# Altium footprint library AD格式.PcbLib: 26 footprints (part 1 of 2)
Each footprint in its own frame and in the unit in brackets; x right, y up, seen from the top. Pads: shape width x height; smd on the part's side, far side on the other; paste and mask are expansions set on the pad; w line width, h text height; cw(c..) or ccw(c..) is an arc to the next point about the centre after c.
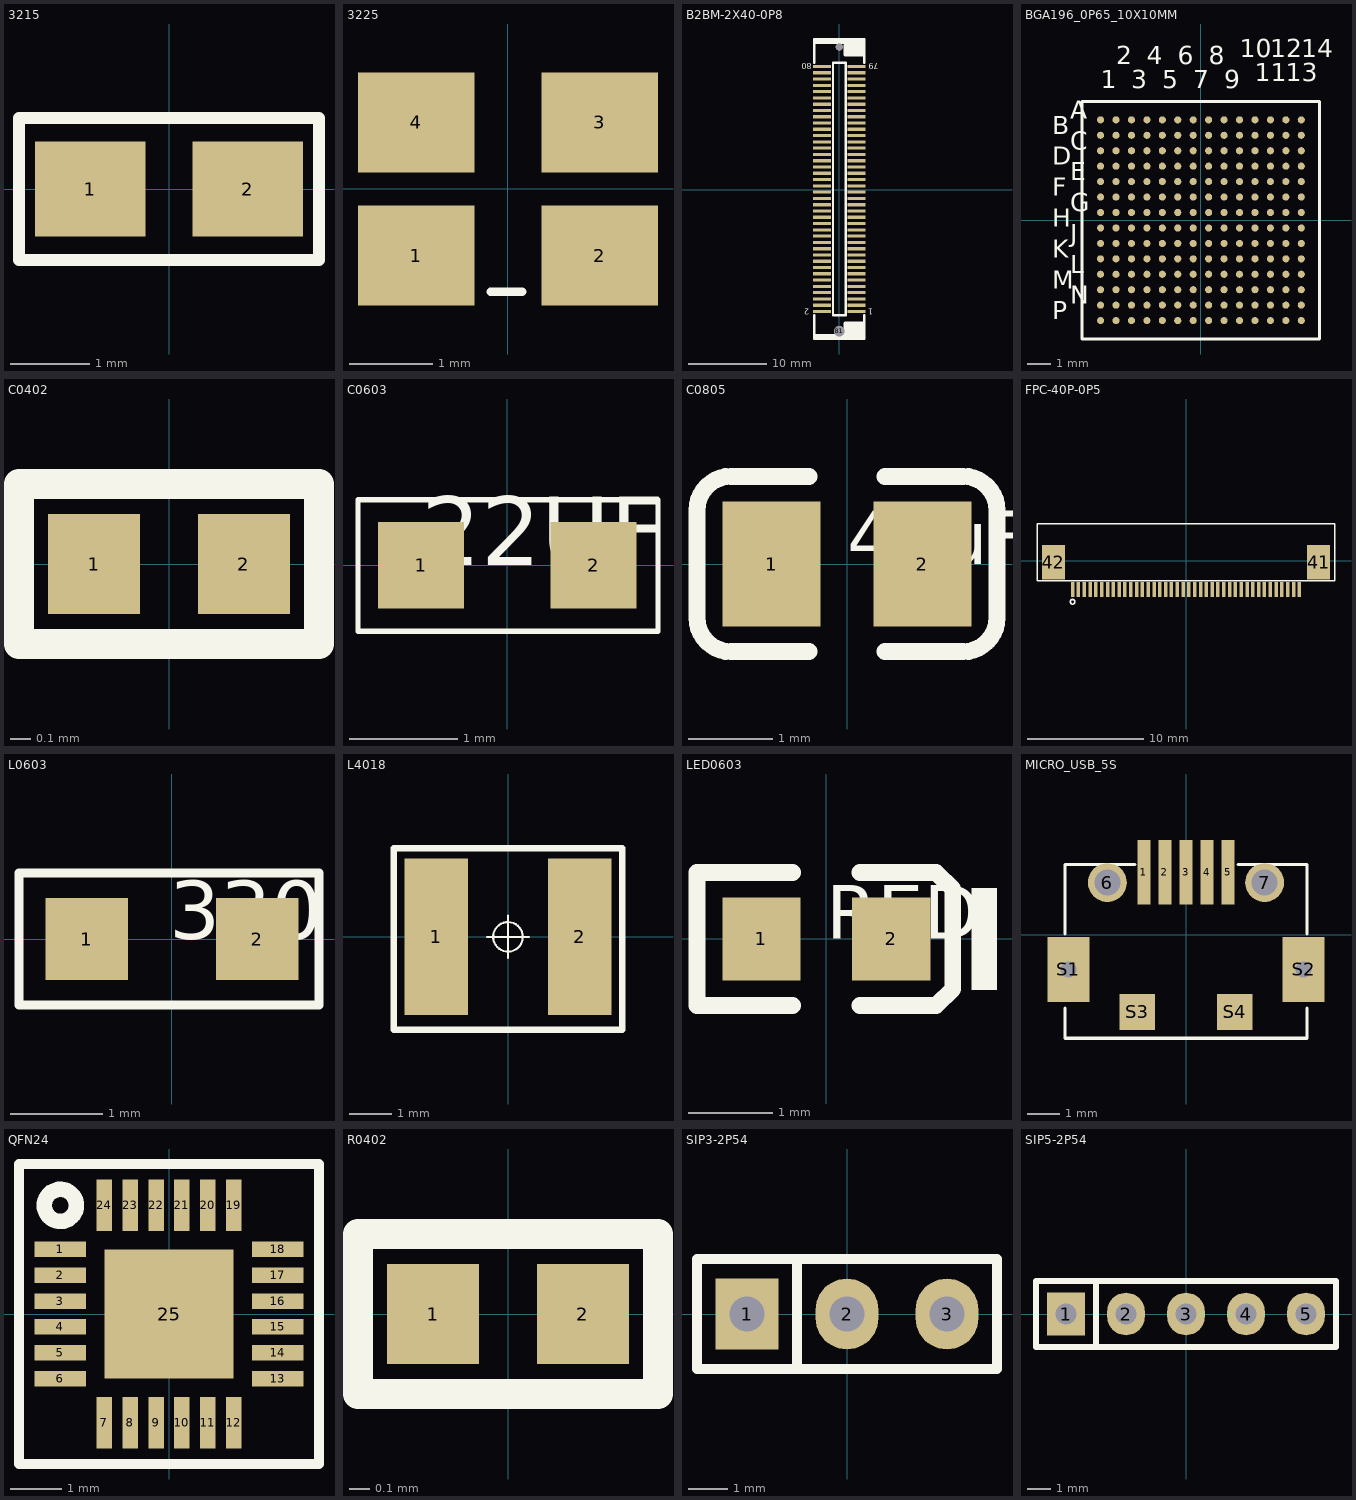
[diagram p0: the footprints below, top view; thin cyan lines are the x and y axes]

## 3215 [mm] "3215"
pads (2):
  rect 1.4x1.2 smd: 1(-1,0) 2(1,0)
Top Overlay:
  lines w0.15: -1.9,-0.9 1.9,-0.9 1.9,0.9 -1.9,0.9 -1.9,-0.9
Mechanical 9:
  text "1" at -1,-0.254 h0.64
  text "2" at 1,-0.254 h0.64

## 3225 [mil] "3225"
pads (4):
  rect 55.12x47.24 smd: 1(-43.3,-31.5) 2(43.31,-31.5) 3(43.31,31.49) 4(-43.3,31.49)
Top Overlay:
  lines w3.94: -8.3,-48.51 6.7,-48.51
Mechanical 9:
  text "4" at -53.3,31.49 h25
  text "2" at 33.31,-31.5 h25
  text "1" at -53.3,-31.5 h25
  text "3" at 33.31,31.49 h25

## B2BM-2X40-0P8 [mm] "B2BM-2X40-0P8"
pads (82):
  rect 2.3x0.4 smd: 1(2.2,-15.5) 2(-2.2,-15.5) 3(2.2,-14.7) 4(-2.2,-14.7) 5(2.2,-13.9) 6(-2.2,-13.9) 7(2.2,-13.1) 8(-2.2,-13.1) 9(2.2,-12.3) 10(-2.2,-12.3) 11(2.2,-11.5) 12(-2.2,-11.5) 13(2.2,-10.7) 14(-2.2,-10.7) 15(2.2,-9.9) 16(-2.2,-9.9) 17(2.2,-9.1) 18(-2.2,-9.1) 19(2.2,-8.3) 20(-2.2,-8.3) 21(2.2,-7.5) 22(-2.2,-7.5) 23(2.2,-6.7) 24(-2.2,-6.7) 25(2.2,-5.9) 26(-2.2,-5.9) 27(2.2,-5.1) 28(-2.2,-5.1) 29(2.2,-4.3) 30(-2.2,-4.3) 31(2.2,-3.5) 32(-2.2,-3.5) 33(2.2,-2.7) 34(-2.2,-2.7) 35(2.2,-1.9) 36(-2.2,-1.9) 37(2.2,-1.1) 38(-2.2,-1.1) 39(2.2,-0.3) 40(-2.2,-0.3) 41(2.2,0.5) 42(-2.2,0.5) 43(2.2,1.3) 44(-2.2,1.3) 45(2.2,2.1) 46(-2.2,2.1) 47(2.2,2.9) 48(-2.2,2.9) 49(2.2,3.7) 50(-2.2,3.7) 51(2.2,4.5) 52(-2.2,4.5) 53(2.2,5.3) 54(-2.2,5.3) 55(2.2,6.1) 56(-2.2,6.1) 57(2.2,6.9) 58(-2.2,6.9) 59(2.2,7.7) 60(-2.2,7.7) 61(2.2,8.5) 62(-2.2,8.5) 63(2.2,9.3) 64(-2.2,9.3) 65(2.2,10.1) 66(-2.2,10.1) 67(2.2,10.9) 68(-2.2,10.9) 69(2.2,11.7) 70(-2.2,11.7) 71(2.2,12.5) 72(-2.2,12.5) 73(2.2,13.3) 74(-2.2,13.3) 75(2.2,14.1) 76(-2.2,14.1) 77(2.2,14.9) 78(-2.2,14.9) 79(2.2,15.7) 80(-2.2,15.7)
  round 1.3 hole 1.3: 81(0,-18)
  round 0.9 hole 0.9: 82(0,18.2)
Top Overlay:
  lines w0.305: -3.2,-16 -3.2,-19 3.2,-19 3.2,-16 ; -3.2,16.2 -3.2,19.2 3.2,19.2 3.2,16.2 ; -0.8,-16 0.8,-16 0.8,16.2 -0.8,16.2 -0.8,-16
  lines w0.5: -3,-18.6 3,-18.6 ; -3,18.8 3,18.8 ; 0.8,-17.8 3,-17.8 ; 0.8,-17.4 3,-17.4 ; 0.8,17.6 3,17.6 ; 0.8,18 3,18 ; 3,-18.2 0.8,-18.2 0.8,-17 3,-17 ; 3,17.2 0.8,17.2 0.8,18.4 3,18.4
  text "1" at 4.335,-15.164 h0.76
  text "2" at -3.793,-15.164 h0.76
  text "79" at 5,16.1 h0.76
  text "80" at -3.5,16.1 h0.76
Mechanical 9:
  text "82" at -0.508,18.2 h0.64
  text "81" at -0.508,-18 h0.64
  text "15" at 1.692,-9.9 h0.64
  text "16" at -2.708,-9.9 h0.64
  text "18" at -2.708,-9.1 h0.64
  text "10" at -2.708,-12.3 h0.64
  text "12" at -2.708,-11.5 h0.64
  text "14" at -2.708,-10.7 h0.64
  text "11" at 1.692,-11.5 h0.64
  text "13" at 1.692,-10.7 h0.64
  text "9" at 1.946,-12.3 h0.64
  text "17" at 1.692,-9.1 h0.64
  text "6" at -2.454,-13.9 h0.64
  text "1" at 1.946,-15.5 h0.64
  text "3" at 1.946,-14.7 h0.64
  text "5" at 1.946,-13.9 h0.64
  text "2" at -2.454,-15.5 h0.64
  text "4" at -2.454,-14.7 h0.64
  text "7" at 1.946,-13.1 h0.64
  text "8" at -2.454,-13.1 h0.64
  text "39" at 1.692,-0.3 h0.64
  text "40" at -2.708,-0.3 h0.64
  text "79" at 1.692,15.7 h0.64
  text "37" at 1.692,-1.1 h0.64
  text "19" at 1.692,-8.3 h0.64
  text "20" at -2.708,-8.3 h0.64
  text "29" at 1.692,-4.3 h0.64
  text "30" at -2.708,-4.3 h0.64
  text "31" at 1.692,-3.5 h0.64
  text "32" at -2.708,-3.5 h0.64
  text "33" at 1.692,-2.7 h0.64
  text "34" at -2.708,-2.7 h0.64
  text "21" at 1.692,-7.5 h0.64
  text "22" at -2.708,-7.5 h0.64
  text "23" at 1.692,-6.7 h0.64
  text "24" at -2.708,-6.7 h0.64
  text "25" at 1.692,-5.9 h0.64
  text "26" at -2.708,-5.9 h0.64
  text "27" at 1.692,-5.1 h0.64
  text "28" at -2.708,-5.1 h0.64
  text "38" at -2.708,-1.1 h0.64
  text "36" at -2.708,-1.9 h0.64
  text "35" at 1.692,-1.9 h0.64
  text "41" at 1.692,0.5 h0.64
  text "42" at -2.708,0.5 h0.64
  text "51" at 1.692,4.5 h0.64
  text "52" at -2.708,4.5 h0.64
  text "53" at 1.692,5.3 h0.64
  text "43" at 1.692,1.3 h0.64
  text "44" at -2.708,1.3 h0.64
  text "45" at 1.692,2.1 h0.64
  text "46" at -2.708,2.1 h0.64
  text "47" at 1.692,2.9 h0.64
  text "48" at -2.708,2.9 h0.64
  text "49" at 1.692,3.7 h0.64
  text "50" at -2.708,3.7 h0.64
  text "58" at -2.708,6.9 h0.64
  text "59" at 1.692,7.7 h0.64
  text "56" at -2.708,6.1 h0.64
  text "60" at -2.708,7.7 h0.64
  text "54" at -2.708,5.3 h0.64
  text "63" at 1.692,9.3 h0.64
  text "64" at -2.708,9.3 h0.64
  text "73" at 1.692,13.3 h0.64
  text "74" at -2.708,13.3 h0.64
  text "75" at 1.692,14.1 h0.64
  text "76" at -2.708,14.1 h0.64
  text "77" at 1.692,14.9 h0.64
  text "78" at -2.708,14.9 h0.64
  text "65" at 1.692,10.1 h0.64
  text "66" at -2.708,10.1 h0.64
  text "67" at 1.692,10.9 h0.64
  text "68" at -2.708,10.9 h0.64
  text "69" at 1.692,11.7 h0.64
  text "70" at -2.708,11.7 h0.64
  text "71" at 1.692,12.5 h0.64
  text "72" at -2.708,12.5 h0.64
  text "61" at 1.692,8.5 h0.64
  text "62" at -2.708,8.5 h0.64
  text "57" at 1.692,6.9 h0.64
  text "55" at 1.692,6.1 h0.64
  text "80" at -2.708,15.7 h0.64

## BGA196_0P65_10X10MM [mm] "BGA196_0P65_10X10MM"
pads (196):
  round 0.3 smd: A1(-4.225,4.225) A2(-3.575,4.225) A3(-2.925,4.225) A4(-2.275,4.225) A5(-1.625,4.225) A6(-0.975,4.225) A7(-0.325,4.225) A8(0.325,4.225) A9(0.975,4.225) A10(1.625,4.225) A11(2.275,4.225) A12(2.925,4.225) A13(3.575,4.225) A14(4.225,4.225) B1(-4.225,3.575) B2(-3.575,3.575) B3(-2.925,3.575) B4(-2.275,3.575) B5(-1.625,3.575) B6(-0.975,3.575) B7(-0.325,3.575) B8(0.325,3.575) B9(0.975,3.575) B10(1.625,3.575) B11(2.275,3.575) B12(2.925,3.575) B13(3.575,3.575) B14(4.225,3.575) C1(-4.225,2.925) C2(-3.575,2.925) C3(-2.925,2.925) C4(-2.275,2.925) C5(-1.625,2.925) C6(-0.975,2.925) C7(-0.325,2.925) C8(0.325,2.925) C9(0.975,2.925) C10(1.625,2.925) C11(2.275,2.925) C12(2.925,2.925) C13(3.575,2.925) C14(4.225,2.925) D1(-4.225,2.275) D2(-3.575,2.275) D3(-2.925,2.275) D4(-2.275,2.275) D5(-1.625,2.275) D6(-0.975,2.275) D7(-0.325,2.275) D8(0.325,2.275) D9(0.975,2.275) D10(1.625,2.275) D11(2.275,2.275) D12(2.925,2.275) D13(3.575,2.275) D14(4.225,2.275) E1(-4.225,1.625) E2(-3.575,1.625) E3(-2.925,1.625) E4(-2.275,1.625) E5(-1.625,1.625) E6(-0.975,1.625) E7(-0.325,1.625) E8(0.325,1.625) E9(0.975,1.625) E10(1.625,1.625) E11(2.275,1.625) E12(2.925,1.625) E13(3.575,1.625) E14(4.225,1.625) F1(-4.225,0.975) F2(-3.575,0.975) F3(-2.925,0.975) F4(-2.275,0.975) F5(-1.625,0.975) F6(-0.975,0.975) F7(-0.325,0.975) F8(0.325,0.975) F9(0.975,0.975) F10(1.625,0.975) F11(2.275,0.975) F12(2.925,0.975) F13(3.575,0.975) F14(4.225,0.975) G1(-4.225,0.325) G2(-3.575,0.325) G3(-2.925,0.325) G4(-2.275,0.325) G5(-1.625,0.325) G6(-0.975,0.325) G7(-0.325,0.325) G8(0.325,0.325) G9(0.975,0.325) G10(1.625,0.325) G11(2.275,0.325) G12(2.925,0.325) G13(3.575,0.325) G14(4.225,0.325) H1(-4.225,-0.325) H2(-3.575,-0.325) H3(-2.925,-0.325) H4(-2.275,-0.325) H5(-1.625,-0.325) H6(-0.975,-0.325) H7(-0.325,-0.325) H8(0.325,-0.325) H9(0.975,-0.325) H10(1.625,-0.325) H11(2.275,-0.325) H12(2.925,-0.325) H13(3.575,-0.325) H14(4.225,-0.325) J1(-4.225,-0.975) J2(-3.575,-0.975) J3(-2.925,-0.975) J4(-2.275,-0.975) J5(-1.625,-0.975) J6(-0.975,-0.975) J7(-0.325,-0.975) J8(0.325,-0.975) J9(0.975,-0.975) J10(1.625,-0.975) J11(2.275,-0.975) J12(2.925,-0.975) J13(3.575,-0.975) J14(4.225,-0.975) K1(-4.225,-1.625) K2(-3.575,-1.625) K3(-2.925,-1.625) K4(-2.275,-1.625) K5(-1.625,-1.625) K6(-0.975,-1.625) K7(-0.325,-1.625) K8(0.325,-1.625) K9(0.975,-1.625) K10(1.625,-1.625) K11(2.275,-1.625) K12(2.925,-1.625) K13(3.575,-1.625) K14(4.225,-1.625) L1(-4.225,-2.275) L2(-3.575,-2.275) L3(-2.925,-2.275) L4(-2.275,-2.275) L5(-1.625,-2.275) L6(-0.975,-2.275) L7(-0.325,-2.275) L8(0.325,-2.275) L9(0.975,-2.275) L10(1.625,-2.275) L11(2.275,-2.275) L12(2.925,-2.275) L13(3.575,-2.275) L14(4.225,-2.275) M1(-4.225,-2.925) M2(-3.575,-2.925) M3(-2.925,-2.925) M4(-2.275,-2.925) M5(-1.625,-2.925) M6(-0.975,-2.925) M7(-0.325,-2.925) M8(0.325,-2.925) M9(0.975,-2.925) M10(1.625,-2.925) M11(2.275,-2.925) M12(2.925,-2.925) M13(3.575,-2.925) M14(4.225,-2.925) N1(-4.225,-3.575) N2(-3.575,-3.575) N3(-2.925,-3.575) N4(-2.275,-3.575) N5(-1.625,-3.575) N6(-0.975,-3.575) N7(-0.325,-3.575) N8(0.325,-3.575) N9(0.975,-3.575) N10(1.625,-3.575) N11(2.275,-3.575) N12(2.925,-3.575) N13(3.575,-3.575) N14(4.225,-3.575) P1(-4.225,-4.225) P2(-3.575,-4.225) P3(-2.925,-4.225) P4(-2.275,-4.225) P5(-1.625,-4.225) P6(-0.975,-4.225) P7(-0.325,-4.225) P8(0.325,-4.225) P9(0.975,-4.225) P10(1.625,-4.225) P11(2.275,-4.225) P12(2.925,-4.225) P13(3.575,-4.225) P14(4.225,-4.225)
Top Overlay:
  lines w0.127: -5,-5 5,-5 5,5 -5,5 -5,-5
  text "1" at -4.225,5.546 h0.76
  text "2" at -3.575,6.562 h0.76
  text "3" at -2.925,5.546 h0.76
  text "4" at -2.275,6.562 h0.76
  text "5" at -1.625,5.546 h0.76
  text "6" at -0.975,6.562 h0.76
  text "7" at -0.325,5.546 h0.76
  text "8" at 0.325,6.562 h0.76
  text "9" at 0.975,5.546 h0.76
  text "10" at 1.625,6.867 h0.76
  text "11" at 2.275,5.851 h0.76
  text "12" at 2.925,6.867 h0.76
  text "13" at 3.575,5.851 h0.76
  text "14" at 4.225,6.867 h0.76
  text "P" at -6.257,-4.174 h0.76
  text "M" at -6.257,-2.874 h0.76
  text "N" at -5.495,-3.524 h0.76
  text "L" at -5.495,-2.224 h0.76
  text "J" at -5.495,-0.924 h0.76
  text "K" at -6.257,-1.574 h0.76
  text "G" at -5.495,0.376 h0.76
  text "H" at -6.257,-0.274 h0.76
  text "F" at -6.257,1.026 h0.76
  text "D" at -6.257,2.326 h0.76
  text "E" at -5.495,1.676 h0.76
  text "B" at -6.257,3.626 h0.76
  text "C" at -5.495,2.976 h0.76
  text "A" at -5.495,4.276 h0.76
Mechanical 9:
  text "B7" at -0.325,3.981 h0.51
  text "P6" at -0.975,-3.819 h0.51
  text "N6" at -0.975,-3.169 h0.51
  text "K8" at 0.325,-1.219 h0.51
  text "F8" at 0.325,1.382 h0.51
  text "F7" at -0.325,1.382 h0.51
  text "F9" at 0.975,1.382 h0.51
  text "H6" at -0.975,0.081 h0.51
  text "G6" at -0.975,0.732 h0.51
  text "F6" at -0.975,1.382 h0.51
  text "H9" at 0.975,0.081 h0.51
  text "J9" at 0.975,-0.569 h0.51
  text "J5" at -1.625,-0.569 h0.51
  text "G9" at 0.975,0.732 h0.51
  text "M9" at 0.975,-2.519 h0.51
  text "P12" at 2.925,-3.615 h0.51
  text "N14" at 4.225,-2.965 h0.51
  text "M14" at 4.225,-2.315 h0.51
  text "H10" at 1.625,0.284 h0.51
  text "D13" at 3.575,2.885 h0.51
  text "D14" at 4.225,2.885 h0.51
  text "K14" at 4.225,-1.015 h0.51
  text "L14" at 4.225,-1.665 h0.51
  text "L11" at 2.275,-1.665 h0.51
  text "M12" at 2.925,-2.315 h0.51
  text "D1" at -4.225,2.681 h0.51
  text "A7" at -0.325,4.631 h0.51
  text "D2" at -3.575,2.681 h0.51
  text "D6" at -0.975,2.681 h0.51
  text "H3" at -2.925,0.081 h0.51
  text "C5" at -1.625,3.331 h0.51
  text "C6" at -0.975,3.331 h0.51
  text "H4" at -2.275,0.081 h0.51
  text "H5" at -1.625,0.081 h0.51
  text "G5" at -1.625,0.732 h0.51
  text "F2" at -3.575,1.382 h0.51
  text "G4" at -2.275,0.732 h0.51
  text "F4" at -2.275,1.382 h0.51
  text "E4" at -2.275,2.031 h0.51
  text "C3" at -2.925,3.331 h0.51
  text "E5" at -1.625,2.031 h0.51
  text "D4" at -2.275,2.681 h0.51
  text "C4" at -2.275,3.331 h0.51
  text "D5" at -1.625,2.681 h0.51
  text "F3" at -2.925,1.382 h0.51
  text "E3" at -2.925,2.031 h0.51
  text "C7" at -0.325,3.331 h0.51
  text "E1" at -4.225,2.031 h0.51
  text "B3" at -2.925,3.981 h0.51
  text "A2" at -3.575,4.631 h0.51
  text "D3" at -2.925,2.681 h0.51
  text "F1" at -4.225,1.382 h0.51
  text "C1" at -4.225,3.331 h0.51
  text "B2" at -3.575,3.981 h0.51
  text "A4" at -2.275,4.631 h0.51
  text "A5" at -1.625,4.631 h0.51
  text "B1" at -4.225,3.981 h0.51
  text "B6" at -0.975,3.981 h0.51
  text "A6" at -0.975,4.631 h0.51
  text "H1" at -4.225,0.081 h0.51
  text "G3" at -2.925,0.732 h0.51
  text "A3" at -2.925,4.631 h0.51
  text "B4" at -2.275,3.981 h0.51
  text "G2" at -3.575,0.732 h0.51
  text "G1" at -4.225,0.732 h0.51
  text "C2" at -3.575,3.331 h0.51
  text "J2" at -3.575,-0.569 h0.51
  text "H2" at -3.575,0.081 h0.51
  text "K1" at -4.225,-1.219 h0.51
  text "J1" at -4.225,-0.569 h0.51
  text "J4" at -2.275,-0.569 h0.51
  text "J3" at -2.925,-0.569 h0.51
  text "C14" at 4.225,3.535 h0.51
  text "J14" at 4.225,-0.366 h0.51
  text "G12" at 2.925,0.935 h0.51
  text "H11" at 2.275,0.284 h0.51
  text "L13" at 3.575,-1.665 h0.51
  text "J13" at 3.575,-0.366 h0.51
  text "H12" at 2.925,0.284 h0.51
  text "M13" at 3.575,-2.315 h0.51
  text "M7" at -0.325,-2.519 h0.51
  text "L7" at -0.325,-1.869 h0.51
  text "K7" at -0.325,-1.219 h0.51
  text "P7" at -0.325,-3.819 h0.51
  text "N7" at -0.325,-3.169 h0.51
  text "L8" at 0.325,-1.869 h0.51
  text "M8" at 0.325,-2.519 h0.51
  text "M6" at -0.975,-2.519 h0.51
  text "J6" at -0.975,-0.569 h0.51
  text "M1" at -4.225,-2.519 h0.51
  text "M2" at -3.575,-2.519 h0.51
  text "K3" at -2.925,-1.219 h0.51
  text "P9" at 0.975,-3.819 h0.51
  text "N9" at 0.975,-3.169 h0.51
  text "P11" at 2.275,-3.615 h0.51
  text "N11" at 2.275,-2.965 h0.51
  text "M10" at 1.625,-2.315 h0.51
  text "P10" at 1.625,-3.615 h0.51
  text "P8" at 0.325,-3.819 h0.51
  text "K4" at -2.275,-1.219 h0.51
  text "L2" at -3.575,-1.869 h0.51
  text "L1" at -4.225,-1.869 h0.51
  text "D8" at 0.325,2.681 h0.51
  text "E8" at 0.325,2.031 h0.51
  text "E7" at -0.325,2.031 h0.51
  text "D10" at 1.625,2.885 h0.51
  text "C10" at 1.625,3.535 h0.51
  text "A10" at 1.625,4.835 h0.51
  text "D9" at 0.975,2.681 h0.51
  text "C9" at 0.975,3.331 h0.51
  text "B9" at 0.975,3.981 h0.51
  text "A9" at 0.975,4.631 h0.51
  text "A8" at 0.325,4.631 h0.51
  text "D11" at 2.275,2.885 h0.51
  text "C11" at 2.275,3.535 h0.51
  text "B11" at 2.275,4.185 h0.51
  text "A11" at 2.275,4.835 h0.51
  text "E11" at 2.275,2.235 h0.51
  text "E10" at 1.625,2.235 h0.51
  text "B8" at 0.325,3.981 h0.51
  text "C8" at 0.325,3.331 h0.51
  text "D7" at -0.325,2.681 h0.51
  text "L6" at -0.975,-1.869 h0.51
  text "E14" at 4.225,2.235 h0.51
  text "G13" at 3.575,0.935 h0.51
  text "F14" at 4.225,1.585 h0.51
  text "F12" at 2.925,1.585 h0.51
  text "G10" at 1.625,0.935 h0.51
  text "F13" at 3.575,1.585 h0.51
  text "K11" at 2.275,-1.015 h0.51
  text "J11" at 2.275,-0.366 h0.51
  text "H13" at 3.575,0.284 h0.51
  text "K10" at 1.625,-1.015 h0.51
  text "J12" at 2.925,-0.366 h0.51
  text "K12" at 2.925,-1.015 h0.51
  text "G14" at 4.225,0.935 h0.51
  text "F11" at 2.275,1.585 h0.51
  text "G11" at 2.275,0.935 h0.51
  text "M11" at 2.275,-2.315 h0.51
  text "N10" at 1.625,-2.965 h0.51
  text "A1" at -4.225,4.631 h0.51
  text "E2" at -3.575,2.031 h0.51
  text "B5" at -1.625,3.981 h0.51
  text "K2" at -3.575,-1.219 h0.51
  text "N1" at -4.225,-3.169 h0.51
  text "N2" at -3.575,-3.169 h0.51
  text "P1" at -4.225,-3.819 h0.51
  text "K6" at -0.975,-1.219 h0.51
  text "G8" at 0.325,0.732 h0.51
  text "H7" at -0.325,0.081 h0.51
  text "G7" at -0.325,0.732 h0.51
  text "J8" at 0.325,-0.569 h0.51
  text "H8" at 0.325,0.081 h0.51
  text "N5" at -1.625,-3.169 h0.51
  text "N8" at 0.325,-3.169 h0.51
  text "B10" at 1.625,4.185 h0.51
  text "A14" at 4.225,4.835 h0.51
  text "E13" at 3.575,2.235 h0.51
  text "K13" at 3.575,-1.015 h0.51
  text "L9" at 0.975,-1.869 h0.51
  text "K9" at 0.975,-1.219 h0.51
  text "P14" at 4.225,-3.615 h0.51
  text "J7" at -0.325,-0.569 h0.51
  text "L3" at -2.925,-1.869 h0.51
  text "N3" at -2.925,-3.169 h0.51
  text "L5" at -1.625,-1.869 h0.51
  text "P5" at -1.625,-3.819 h0.51
  text "M5" at -1.625,-2.519 h0.51
  text "P4" at -2.275,-3.819 h0.51
  text "M3" at -2.925,-2.519 h0.51
  text "N4" at -2.275,-3.169 h0.51
  text "M4" at -2.275,-2.519 h0.51
  text "P3" at -2.925,-3.819 h0.51
  text "P2" at -3.575,-3.819 h0.51
  text "L4" at -2.275,-1.869 h0.51
  text "K5" at -1.625,-1.219 h0.51
  text "B13" at 3.575,4.185 h0.51
  text "A13" at 3.575,4.835 h0.51
  text "A12" at 2.925,4.835 h0.51
  text "B12" at 2.925,4.185 h0.51
  text "C13" at 3.575,3.535 h0.51
  text "D12" at 2.925,2.885 h0.51
  text "E12" at 2.925,2.235 h0.51
  text "B14" at 4.225,4.185 h0.51
  text "L12" at 2.925,-1.665 h0.51
  text "C12" at 2.925,3.535 h0.51
  text "J10" at 1.625,-0.366 h0.51
  text "E9" at 0.975,2.031 h0.51
  text "F10" at 1.625,1.585 h0.51
  text "F5" at -1.625,1.382 h0.51
  text "E6" at -0.975,2.031 h0.51
  text "N13" at 3.575,-2.965 h0.51
  text "P13" at 3.575,-3.615 h0.51
  text "H14" at 4.225,0.284 h0.51
  text "L10" at 1.625,-1.665 h0.51
  text "N12" at 2.925,-2.965 h0.51

## C0402 [mm] "C0402"
pads (2):
  rect 0.46x0.5 smd: 1(-0.375,0) 2(0.375,0)
Top Overlay:
  lines w0.15: -0.75,-0.4 -0.75,0.4 0.75,0.4 0.75,-0.4 -0.75,-0.4
Mechanical 9:
  text "1" at -0.375,-0.254 h0.64
  text "2" at 0.375,-0.254 h0.64

## C0603 [mil] "C0603"
pads (2):
  rect 31.5x31.5 smd: 1(-31.5,0) 2(31.49,0)
Top Overlay:
  lines w2: -54.5,-24 55,-24 55,24 -54.5,24 -54.5,-24
  text "22UF" at -31.5,0 h25
Mechanical 9:
  text "1" at -31.5,10 h25
  text "2" at 31.49,10 h25

## C0805 [mm] "C0805"
pads (2):
  rect 1.16x1.47 smd: 1(-0.89,0) 2(0.89,0)
Top Overlay:
  lines w0.2: -0.45,-1.035 -1.37,-1.035 cw(c-1.37,-0.635) -1.77,-0.635 -1.77,0.635 cw(c-1.37,0.635) -1.37,1.035 -0.45,1.035 ; 0.45,-1.035 1.37,-1.035 ccw(c1.37,-0.635) 1.77,-0.635 1.77,0.635 ccw(c1.37,0.635) 1.37,1.035 0.45,1.035
  text "47uF" at 0,0 h0.64
Mechanical 9:
  text "2" at 0.636,0 h0.64
  text "1" at -1.144,0 h0.64

## FPC-40P-0P5 [mm] "FPC-40P-0P5"
pads (42):
  rect 0.3x1.3 smd: 1(-9.75,-2.483) 2(-9.25,-2.483) 3(-8.75,-2.483) 4(-8.25,-2.483) 5(-7.75,-2.483) 6(-7.25,-2.483) 7(-6.75,-2.483) 8(-6.25,-2.483) 9(-5.75,-2.483) 10(-5.25,-2.483) 11(-4.75,-2.483) 12(-4.25,-2.483) 13(-3.75,-2.483) 14(-3.25,-2.483) 15(-2.75,-2.483) 16(-2.25,-2.483) 17(-1.75,-2.483) 18(-1.25,-2.483) 19(-0.75,-2.483) 20(-0.25,-2.483) 21(0.25,-2.483) 22(0.75,-2.483) 23(1.25,-2.483) 24(1.75,-2.483) 25(2.25,-2.483) 26(2.75,-2.483) 27(3.25,-2.483) 28(3.75,-2.483) 29(4.25,-2.483) 30(4.75,-2.483) 31(5.25,-2.483) 32(5.75,-2.483) 33(6.25,-2.483) 34(6.75,-2.483) 35(7.25,-2.483) 36(7.75,-2.483) 37(8.25,-2.483) 38(8.75,-2.483) 39(9.25,-2.483) 40(9.75,-2.483)
  rect 2x3 smd: 41(11.4,-0.133) 42(-11.4,-0.133)
Top Overlay:
  circle w0.127: c-9.75,-3.533 r0.2
  lines w0.127: -12.8,-1.733 12.8,-1.733 12.8,3.167 -12.8,3.167 -12.8,-1.733
Mechanical 9:
  text "40" at 9.75,-1.975 h0.64
  text "39" at 9.25,-1.975 h0.64
  text "1" at -9.75,-2.229 h0.64
  text "2" at -9.25,-2.229 h0.64
  text "7" at -6.75,-2.229 h0.64
  text "9" at -5.75,-2.229 h0.64
  text "10" at -5.25,-1.975 h0.64
  text "8" at -6.25,-2.229 h0.64
  text "21" at 0.25,-1.975 h0.64
  text "22" at 0.75,-1.975 h0.64
  text "23" at 1.25,-1.975 h0.64
  text "24" at 1.75,-1.975 h0.64
  text "25" at 2.25,-1.975 h0.64
  text "12" at -4.25,-1.975 h0.64
  text "13" at -3.75,-1.975 h0.64
  text "14" at -3.25,-1.975 h0.64
  text "28" at 3.75,-1.975 h0.64
  text "29" at 4.25,-1.975 h0.64
  text "30" at 4.75,-1.975 h0.64
  text "31" at 5.25,-1.975 h0.64
  text "32" at 5.75,-1.975 h0.64
  text "20" at -0.25,-1.975 h0.64
  text "15" at -2.75,-1.975 h0.64
  text "16" at -2.25,-1.975 h0.64
  text "11" at -4.75,-1.975 h0.64
  text "3" at -8.75,-2.229 h0.64
  text "4" at -8.25,-2.229 h0.64
  text "5" at -7.75,-2.229 h0.64
  text "18" at -1.25,-1.975 h0.64
  text "19" at -0.75,-1.975 h0.64
  text "17" at -1.75,-1.975 h0.64
  text "27" at 3.25,-1.975 h0.64
  text "26" at 2.75,-1.975 h0.64
  text "33" at 6.25,-1.975 h0.64
  text "34" at 6.75,-1.975 h0.64
  text "35" at 7.25,-1.975 h0.64
  text "36" at 7.75,-1.975 h0.64
  text "38" at 8.75,-1.975 h0.64
  text "37" at 8.25,-1.975 h0.64
  text "6" at -7.25,-2.229 h0.64
  text "41" at 11.4,0.375 h0.64
  text "42" at -11.4,0.375 h0.64

## L0603 [mil] "L0603"
pads (2):
  rect 35x35 smd: 1(-36.24,0) 2(36.25,0)
Top Overlay:
  lines w3.94: -64.98,-28 -64.98,28 62.5,28 62.5,-28 -64.98,-28
  text "330 OHM" at -1.24,0 h25
Mechanical 9:
  text "1" at -36.24,-10 h25
  text "2" at 36.25,-10 h25

## L4018 [mm] "L4018"
pads (2):
  rect 1.5x3.7 smd: 1(-1.7,0) 2(1.7,0)
Top Overlay:
  circle w0.05: c0,0 r0.35
  lines w0.05: -0.5,0 0.5,0 ; 0,-0.5 0,0.5
  lines w0.152: -2.7,-2.2 -2.7,2.1 2.7,2.1 2.7,-2.2 -2.7,-2.2
Mechanical 9:
  text "1" at -1.7,-0.254 h0.64
  text "2" at 1.7,-0.254 h0.64

## LED0603 [mm] "LED0603"
pads (2):
  rect 0.93x0.98 smd: 1(-0.77,0) 2(0.77,0)
Top Overlay:
  pour cut-out: 1.725,-0.6 2.025,-0.6 2.025,0.6 1.725,0.6
  lines w0.2: -0.4,-0.79 -1.535,-0.79 -1.535,0.79 -0.4,0.79 ; 0.4,-0.79 1.3,-0.79 1.5,-0.597 1.5,0.597 1.3,0.79 0.4,0.79
  text "RED" at 0,0 h0.64
Mechanical 9:
  text "1" at -0.77,-0.254 h0.64
  text "2" at 0.77,-0.254 h0.64

## MICRO_USB_5S [mm] "MICRO_USB_5S"
pads (11):
  rect 0.4x2 smd: 1(-1.3,1.93) 2(-0.65,1.93) 3(0,1.93) 4(0.65,1.93) 5(1.3,1.93)
  round 1.2 hole 0.8: 6(-2.425,1.61) 7(2.425,1.61)
  rect 1.3x2 hole 0.5: S1(-3.625,-1.07) S2(3.625,-1.07)
  rect 1.1x1.1 smd: S3(-1.5,-2.38) S4(1.5,-2.38)
Top Overlay:
  lines w0.1: -3.73,-2.261 -3.73,-3.19 3.73,-3.19 3.73,-2.261 ; -3.73,0.025 -3.73,2.165 -1.575,2.165 ; 1.6,2.165 3.73,2.165 3.73,0.025
Mechanical 9:
  text "4" at 0.904,1.93 h0.64
  text "3" at 0.254,1.93 h0.64
  text "2" at -0.396,1.93 h0.64
  text "S3" at -0.992,-2.38 h0.64
  text "S4" at 2.008,-2.38 h0.64
  text "S2" at 4.133,-1.07 h0.64
  text "5" at 1.554,1.93 h0.64
  text "S1" at -3.117,-1.07 h0.64
  text "1" at -1.046,1.93 h0.64
  text "6" at -2.171,1.61 h0.64
  text "7" at 2.679,1.61 h0.64

## QFN24 [mm] "QFN24"
pads (25):
  rect 1x0.3 smd: 1(-2.1,1.25) 2(-2.1,0.75) 3(-2.1,0.25) 4(-2.1,-0.25) 5(-2.1,-0.75) 6(-2.1,-1.25) 13(2.1,-1.25) 14(2.1,-0.75) 15(2.1,-0.25) 16(2.1,0.25) 17(2.1,0.75) 18(2.1,1.25)
  rect 0.3x1 smd: 7(-1.25,-2.1) 8(-0.75,-2.1) 9(-0.25,-2.1) 10(0.25,-2.1) 11(0.75,-2.1) 12(1.25,-2.1) 19(1.25,2.1) 20(0.75,2.1) 21(0.25,2.1) 22(-0.25,2.1) 23(-0.75,2.1) 24(-1.25,2.1)
  rect 2.5x2.5 smd: 25(0,0)
Top Overlay:
  circle w0.3: c-2.1,2.1 r0.31
  lines w0.2: -2.9,-2.9 2.9,-2.9 2.9,2.9 -2.9,2.9 -2.9,-2.9
Mechanical 9:
  text "19" at 1.25,2.608 h0.64
  text "1" at -2.1,1.504 h0.64
  text "6" at -2.1,-0.996 h0.64
  text "24" at -1.25,2.608 h0.64
  text "14" at 2.1,-0.242 h0.64
  text "15" at 2.1,0.258 h0.64
  text "25" at 0,0.508 h0.64
  text "21" at 0.25,2.608 h0.64
  text "20" at 0.75,2.608 h0.64
  text "2" at -2.1,1.004 h0.64
  text "23" at -0.75,2.608 h0.64
  text "22" at -0.25,2.608 h0.64
  text "3" at -2.1,0.504 h0.64
  text "5" at -2.1,-0.496 h0.64
  text "16" at 2.1,0.758 h0.64
  text "18" at 2.1,1.758 h0.64
  text "17" at 2.1,1.258 h0.64
  text "10" at 0.25,-1.592 h0.64
  text "7" at -1.25,-1.846 h0.64
  text "8" at -0.75,-1.846 h0.64
  text "12" at 1.25,-1.592 h0.64
  text "13" at 2.1,-0.742 h0.64
  text "11" at 0.75,-1.592 h0.64
  text "9" at -0.25,-1.846 h0.64
  text "4" at -2.1,0.004 h0.64

## R0402 [mm] "R0402"
pads (2):
  rect 0.46x0.5 smd: 1(-0.375,0) 2(0.375,0)
Top Overlay:
  lines w0.15: -0.75,-0.4 -0.75,0.4 0.75,0.4 0.75,-0.4 -0.75,-0.4
Mechanical 9:
  text "1" at -0.375,0.254 h0.64
  text "2" at 0.375,0.254 h0.64

## SIP3-2P54 [mm] "SIP3-2P54"
pads (3):
  rect 1.6x1.8 hole 0.9: 1(-2.54,0)
  oval 1.6x1.8 hole 0.9: 2(0,0) 3(2.54,0)
Top Overlay:
  lines w0.254: -1.27,-1.4 -1.27,1.4 ; -3.81,-1.4 3.81,-1.4 3.81,1.4 -3.81,1.4 -3.81,-1.4
Mechanical 9:
  text "1" at -2.794,0 h0.64
  text "3" at 2.286,0 h0.64
  text "2" at -0.254,0 h0.64

## SIP5-2P54 [mm] "SIP5-2P54"
pads (5):
  rect 1.6x1.8 hole 0.9: 1(-5.08,0)
  oval 1.6x1.8 hole 0.9: 2(-2.54,0) 3(0,0) 4(2.54,0) 5(5.08,0)
Top Overlay:
  lines w0.254: -3.81,-1.4 -3.81,1.4 ; -6.35,-1.4 6.35,-1.4 6.35,1.4 -6.35,1.4 -6.35,-1.4
Mechanical 9:
  text "5" at 5.334,0 h0.64
  text "1" at -4.826,0 h0.64
  text "4" at 2.794,0 h0.64
  text "2" at -2.286,0 h0.64
  text "3" at 0.254,0 h0.64